# EAGLE library part IMU (library quadparts_michael)
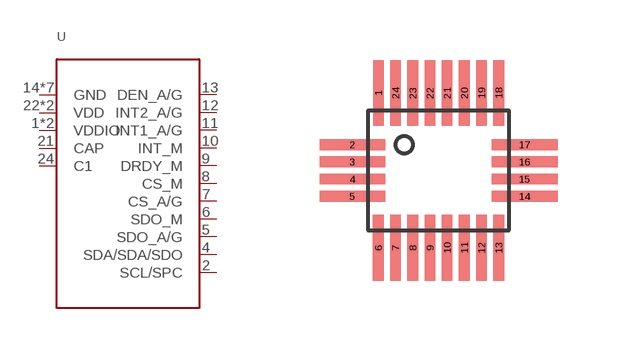
[diagram p0: symbol with the pads of IMU_LSM9DS1TR; footprint IMU_LSM9DS1TR]

Designator prefix -

## IMU (CREATOR: Michael M. Gonzalez; DIST: Digikey; DISTPN: 497-14946-1-ND; MFR: STMicroelectronics; MPN: LSM9DS1TR)  [IMU_LSM9DS1TR]
1  VDDIO
2  SCL/SPC
3  VDDIO
4  SDA/SDA/SDO
5  SDO_A/G
6  SDO_M
7  CS_A/G
8  CS_M
9  DRDY_M
10  INT_M
11  INT1_A/G
12  INT2_A/G
13  DEN_A/G
14  GND
15  GND
16  GND
17  GND
18  GND
19  GND
20  GND
21  CAP
22  VDD
23  VDD
24  C1

## Footprint IMU_LSM9DS1TR (pad centres in mm)
smd 0.27 x 1.65: 1 -1.505,1.935; 6 -1.505,-1.935; 7 -1.075,-1.935; 8 -0.645,-1.935; 9 -0.215,-1.935; 10 0.215,-1.935; 11 0.645,-1.935; 12 1.075,-1.935; 13 1.505,-1.935; 18 1.505,1.935; 19 1.075,1.935; 20 0.645,1.935; 21 0.215,1.935; 22 -0.215,1.935; 23 -0.645,1.935; 24 -1.075,1.935
smd 1.65 x 0.27: 2 -2.15,0.645; 3 -2.15,0.215; 4 -2.15,-0.215; 5 -2.15,-0.645; 14 2.15,-0.645; 15 2.15,-0.215; 16 2.15,0.215; 17 2.15,0.645